# Altium footprint library PcbLib1.pcblib: 4 footprints
Each footprint in its own frame and in the unit in brackets; x right, y up, seen from the top. Pads: shape width x height; smd on the part's side, far side on the other; paste and mask are expansions set on the pad; w line width, h text height; cw(c..) or ccw(c..) is an arc to the next point about the centre after c.
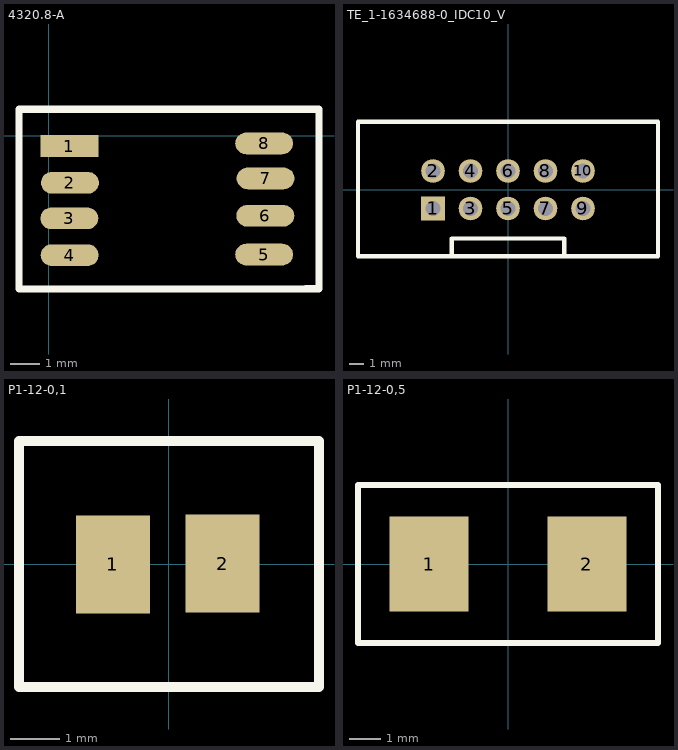
[diagram p0: the footprints below, top view; thin cyan lines are the x and y axes]

## 4320.8-A [mm]
pads (8):
  rect 2x0.75 smd: 1(0.71,-0.35)
  oval 2x0.75 smd: 2(0.73,-1.62) 3(0.71,-2.85) 4(0.72,-4.12) 5(7.44,-4.1) 6(7.48,-2.76) 7(7.49,-1.47) 8(7.44,-0.26)
Top Overlay:
  lines w0.254: 8.875,-5.285 9.335,-5.285 9.335,0.925 -1.03,0.925 -1.03,-5.29 8.87,-5.29 8.88,-5.28
Mechanical 1:
  pour cut-out: 1.33,1.62
3D body: height 0.25, standoff 0, extent 1.17,-1.05 1.17,-1.05
3D body: height 1.5, standoff 0.25, extent 2.1,-4.76 6.07,0.23
3D body: height 0.25, standoff 0, extent 4,-2 4,-2
3D body: height 0.25, standoff 0, extent 4,-2 4,-2
3D body: height 0.25, standoff 0, extent 2.1,0.2 2.1,0.2
3D body: height 0.25, standoff 0, extent 2.1,0.2 2.1,0.2
3D body: height 0.25, standoff 0, extent 2.1,0.2 2.1,0.2
3D body: height 0.25, standoff 0, extent 2.1,0.2 2.1,0.2
3D body: height 0.25, standoff 0, extent 2.1,0.2 2.1,0.2
3D body: height 0.25, standoff 0, extent 2.1,0.2 2.1,0.2
3D body: height 0.25, standoff 0, extent 5.25,-5.75 5.25,-5.75
3D body: height 0.25, standoff 0, extent 2.1,0.2 2.1,0.2
3D body: height 0.25, standoff 0, extent 2.1,0.2 2.1,0.2

## TE_1-1634688-0_IDC10_V [mm]
height 9.1
pads (10):
  rect 1.6x1.6 hole 1.02: 1(-5.08,-1.27)
  round 1.6 hole 1.02: 2(-5.08,1.27) 3(-2.54,-1.27) 4(-2.54,1.27) 5(0,-1.27) 6(0,1.27) 7(2.54,-1.27) 8(2.54,1.27) 9(5.08,-1.27) 10(5.08,1.27)
Top Overlay:
  lines w0.3: -3.81,-4.5 -3.81,-3.302 3.81,-3.302 3.81,-4.5 ; -10.16,-4.5 10.16,-4.5 10.16,4.6 -10.16,4.6 -10.16,-4.5

## Р1-12-0,1 [mm]
pads (2):
  rect 1.5x2 smd: 1(-1.14,-0.01) 2(1.09,0.01)
Top Overlay:
  lines w0.2: -3.05,-2.5 3.05,-2.5 3.05,2.5 -3.05,2.5 -3.05,0 -3.05,-2.5
3D body "RES1206.STEP": height 0.55, standoff 0, extent -1.55,-0.77 1.55,0.782

## Р1-12-0,5 [mm]
pads (2):
  rect 2.5x3 smd: 1(-2.5,0) 2(2.5,0)
Top Overlay:
  lines w0.2: -4.75,-2.5 4.75,-2.5 4.75,2.5 -4.75,2.5 -4.75,0 -4.75,-2.5
3D body "RES2010.STEP": height 0.55, standoff 0, extent -2.55,-1.17 2.35,1.23